# Altium integrated library PL2303HX.IntLib: 1 symbol
Pins are listed as number, name and electrical type; pins without a type are passive.

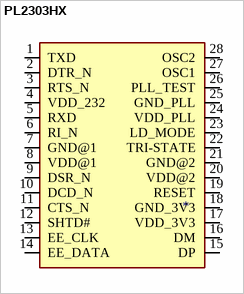
[diagram p0: symbol PL2303HX]

## PL2303HX
designator ?
USB to RS232 TSSOP28; MF: Prolific Technology; MP: PL-2303HX; SnapEDA_Link: https://www.snapeda.com/parts/PL-2303HX/Prolific%20Technology/view-part/598561/?ref=snap; Availability: Unavailable; Value: *; Package: None; Price: None
footprint TSSOP28
pins: 1 TXD (io), 2 DTR_N (io), 3 RTS_N (io), 4 VDD_232 (io), 5 RXD (io), 6 RI_N (io), 7 GND@1 (io), 8 VDD@1 (io), 9 DSR_N (io), 10 DCD_N (io), 11 CTS_N (io), 12 SHTD# (io), 13 EE_CLK (io), 14 EE_DATA (io), 15 DP (io), 16 DM (io), 17 VDD_3V3 (io), 18 GND_3V3 (io), 19 RESET (io), 20 VDD@2 (io), 21 GND@2 (io), 22 TRI-STATE (io), 23 LD_MODE (io), 24 VDD_PLL (io), 25 GND_PLL (io), 26 PLL_TEST (io), 27 OSC1 (io), 28 OSC2 (io)